# Altium footprint library DF14A-xxP-1.25H(55).PcbLib: 2 footprints
Each footprint in its own frame and in the unit in brackets; x right, y up, seen from the top. Pads: shape width x height; smd on the part's side, far side on the other; paste and mask are expansions set on the pad; w line width, h text height; cw(c..) or ccw(c..) is an arc to the next point about the centre after c.
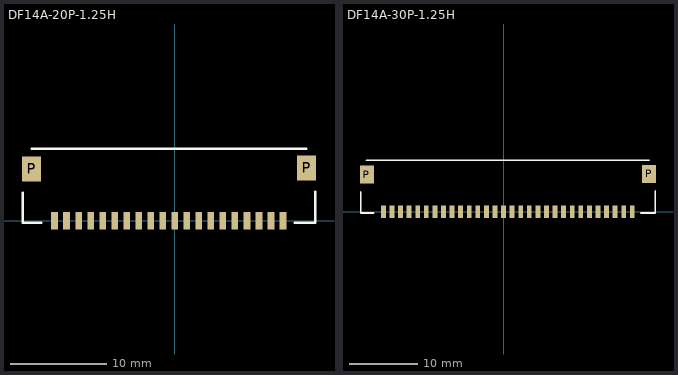
[diagram p0: the footprints below, top view; thin cyan lines are the x and y axes]

## DF14A-20P-1.25H [mm] "CONN HEADER 20POS 1.25MM R/A SMD"
height 2.5
pads (22):
  rect 0.7x1.8 smd: 1(11.25,0) 2(10,0) 3(8.75,0) 4(7.5,0) 5(6.25,0) 6(5,0) 7(3.75,0) 8(2.5,0) 9(1.25,0) 10(0,0) 11(-1.25,0) 12(-2.5,0) 13(-3.75,0) 14(-5,0) 15(-6.25,0) 16(-7.5,0) 17(-8.75,0) 18(-10,0) 19(-11.25,0) 20(-12.5,0)
  rect 2x2.6 smd: P(-14.9,5.4) P(13.7,5.5)
Top Overlay:
  lines w0.254: -15.8,2.9 -15.8,-0.2 -13.9,-0.2 ; -14.9,7.5 13.7,7.5 ; 12.5,-0.2 14.6,-0.2 14.6,3
3D body "DF14A-20P-1.25H.stp": height 2.34, standoff -0.16, extent -15.567,0.032 14.383,6.732

## DF14A-30P-1.25H [mm] "CONN HEADER 30POS 1.25MM R/A SMD"
height 2.5
pads (32):
  rect 0.7x1.8 smd: 1(18.75,0) 2(17.5,0) 3(16.25,0) 4(15,0) 5(13.75,0) 6(12.5,0) 7(11.25,0) 8(10,0) 9(8.75,0) 10(7.5,0) 11(6.25,0) 12(5,0) 13(3.75,0) 14(2.5,0) 15(1.25,0) 16(0,0) 17(-1.25,0) 18(-2.5,0) 19(-3.75,0) 20(-5,0) 21(-6.25,0) 22(-7.5,0) 23(-8.75,0) 24(-10,0) 25(-11.25,0) 26(-12.5,0) 27(-13.75,0) 28(-15,0) 29(-16.25,0) 30(-17.5,0)
  rect 2x2.6 smd: P(-19.9,5.4) P(21.2,5.5)
Top Overlay:
  lines w0.254: -20.8,2.9 -20.8,-0.2 -18.9,-0.2 ; -20,7.5 21.2,7.5 ; 20,-0.2 22.1,-0.2 22.1,3
3D body "DF14A-30P-1.25H.stp": height 2.24, standoff -0.26, extent -20.567,0.032 21.883,6.732